# EAGLE library part TMD2772 (library we-sensor)
AMS TMD2772 Ambient Light Sensor, Proximity Detection, IR LED (I2C)
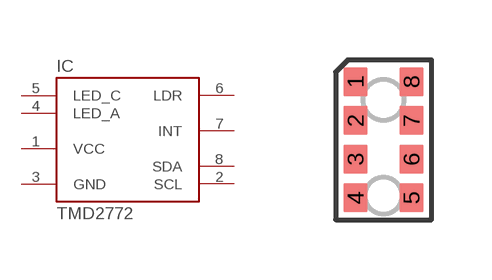
[diagram p2: symbol with the pads of TMD2772; footprint TMD2772]

Designator prefix IC

## TMD2772  [TMD2772]
1  VCC  pwr
2  SCL
3  GND  pwr
4  LED_A
5  LED_C
6  LDR
7  INT
8  SDA

## Footprint TMD2772 (pad centres in mm)
smd 0.6 x 0.72: 1 -0.7,1.455; 2 -0.7,0.485; 3 -0.7,-0.485; 4 -0.7,-1.455; 5 0.7,-1.455; 6 0.7,-0.485; 7 0.7,0.485; 8 0.7,1.455